# Altium schematic symbol library Inductors.SchLib: 2 symbols
Pins are listed as number, name and electrical type; pins without a type are passive.

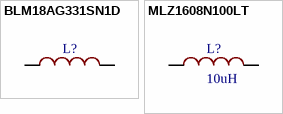
[diagram p0: symbols BLM18AG331SN1D to MLZ1608N100LT]

## BLM18AG331SN1D
designator L?
MURATA         BLM18AG331SN1D            FERRITE BEAD, 0.3OHM, 500MA, 0603; Material: Ferrite,Steel; Impedance: 330R; Tolerance: 25%; DC Resistance (DCR): 300mR; Test Frequency: 100MHz; Number of Lines: 1; Shielding: Unshielded; Supplier 1: Farnell; Supplier Part Number 1: 1515675; Manufacturer: Murata; Manufacturer Part Number: BLM18AG331SN1D; RoHS: Yes; Category: Inductors; Stock 1: 4308; Case/Package: 0603; Number of Pins: 2; Core Material: Ferrite; Case Code (Metric): 1608; Case Code (Imperial): 0603; Min Operating Temperature: -55°C; Max Operating Temperature: 125°C; Max DC Current: 500mA; Package Quantity: 1; Max Current Rating: 500mA; Packaging: Tape and Reel; Current Rating: 500mA; ESR (Equivalent Series Resistance): 330R; Termination: SMD/SMT; Number of Circuits: 1; Length: 1.6mm; Height: 0.8mm; Width: 0.8mm; Depth: 0.8mm; REACH SVHC: No SVHC; Lead Free: Lead Free; ComponentLink1URL: https://datasheet.ciiva.com/1466/356366-1466928.pdf?src-supplier=Element14; ComponentLink1Description: https://datasheet.ciiva.com/1466/356366-1466928.pdf?src-supplier=Element14; ComponentLink2URL: https://datasheet.ciiva.com/19458/1844740-19458419.pdf?src-supplier=Jameco; ComponentLink2Description: https://datasheet.ciiva.com/19458/1844740-19458419.pdf?src-supplier=Jameco; ComponentLink3URL: https://datasheet.ciiva.com/18093/getdatasheetpartid-220856-18093188.pdf?src-supplier=Verical; ComponentLink3Description: https://datasheet.ciiva.com/18093/getdatasheetpartid-220856-18093188.pdf?src-supplier=Verical; ComponentLink4URL: https://datasheet.ciiva.com/11800/0900766b811b5866-11800887.pdf?src-supplier=RSComponents; ComponentLink4Description: https://datasheet.ciiva.com/11800/0900766b811b5866-11800887.pdf?src-supplier=RSComponents; ComponentLink5URL: https://datasheet.ciiva.com/41449/001171689-da-01-en-chip-drossel0603-330r-500ma-1-6x0-8mm-41449370.pdf?src-supplier=Conrad; ComponentLink5Description: https://datasheet.ciiva.com/41449/001171689-da-01-en-chip-drossel0603-330r-500ma-1-6x0-8mm-41449370.pdf?src-supplier=Conrad; ComponentLink6URL: https://datasheet.ciiva.com/41449/001172225-da-01-en-drossel-0603-330r-1-6x0-8mm-4000st-41449519.pdf?src-supplier=Conrad; ComponentLink6Description: https://datasheet.ciiva.com/41449/001172225-da-01-en-drossel-0603-330r-1-6x0-8mm-4000st-41449519.pdf?src-supplier=Conrad; ComponentLink7URL: https://datasheet.ciiva.com/16420/l0110s0100blm18a-16420761.pdf?src-supplier=Future+Electronics; ComponentLink7Description: https://datasheet.ciiva.com/16420/l0110s0100blm18a-16420761.pdf?src-supplier=Future+Electronics; ComponentLink8URL: https://datasheet.ciiva.com/1012/l0110s0100blm18a-1012044.pdf?src-supplier=Digi-Key; ComponentLink8Description: https://datasheet.ciiva.com/1012/l0110s0100blm18a-1012044.pdf?src-supplier=Digi-Key; ComponentLink9URL: https://datasheet.ciiva.com/3081/l0110s0100blm18a-3081612.pdf?src-supplier=Avnet; ComponentLink9Description: https://datasheet.ciiva.com/3081/l0110s0100blm18a-3081612.pdf?src-supplier=Avnet; ComponentLink10URL: https://datasheet.ciiva.com/1012/l0110s0100blm18a-1012045.pdf?src-supplier=Digi-Key; ComponentLink10Description: https://datasheet.ciiva.com/1012/l0110s0100blm18a-1012045.pdf?src-supplier=Digi-Key; ComponentLink11URL: https://datasheet.ciiva.com/17279/l0110s0100blm18a-17279501.pdf?src-supplier=Avnet+Europe; ComponentLink11Description: https://datasheet.ciiva.com/17279/l0110s0100blm18a-17279501.pdf?src-supplier=Avnet+Europe; ComponentLink12URL: https://datasheet.ciiva.com/1012/l0110s0100blm18a-1012046.pdf?src-supplier=Digi-Key; ComponentLink12Description: https://datasheet.ciiva.com/1012/l0110s0100blm18a-1012046.pdf?src-supplier=Digi-Key; ComponentLink13URL: https://datasheet.ciiva.com/1466/356366-1466927.pdf?src-supplier=Element14; ComponentLink13Description: https://datasheet.ciiva.com/1466/356366-1466927.pdf?src-supplier=Element14; Price: 0.0361
footprint INDC1608X10 (Chip Inductor, 2-Leads, Body 1.60x0.80mm, IPC Medium Density)
pins: 1, 2

## MLZ1608N100LT
designator L?, comment 10uH
TDK         MLZ1608N100LT             Surface Mount Power Inductor, Ferrite, MLZ Series, 10 H, 300 mA, 60 mA, Multilayer, 0.6 ohm                          New; Tolerance: 20%; Shielding: Shielded; DC Resistance (DCR): 780mR; Test Frequency: 2MHz; Self Resonant Frequency: 50MHz; Saturation Current: 60mA; DC Current: 300mA; Supplier 1: Farnell; Supplier Part Number 1: 2564062; Manufacturer: TDK; Manufacturer Part Number: MLZ1608N100LT; RoHS: Yes; Category: Inductors; Stock: 14993; Pricing: 10=0.12200, 100=0.07240, 500=0.06400, 1000=0.05560, 2000=0.04660, 4000=0.03890, 20000=0.03730 (EUR); Mount: Surface Mount; Case/Package: 603; Core Material: Ferrite; Min Operating Temperature: -55°C; Max Operating Temperature: 125°C; Packaging: Cut Tape; Inductance: 10uH; Inductance Tolerance: 20%; Military Standard: Not; RMS Current (Irms): 300mA; Length: 1.75mm; Depth: 0.95mm; REACH SVHC: No SVHC; ComponentLink1URL: http://www.farnell.com/datasheets/2053102.pdf?src-supplier=Farnell; ComponentLink1Description: http://www.farnell.com/datasheets/2053102.pdf?src-supplier=Farnell; ComponentLink2URL: http://components.arrow.com/part/dataview/0323_03824957?src-supplier=Arrow+Europe; ComponentLink2Description: http://components.arrow.com/part/dataview/0323_03824957?src-supplier=Arrow+Europe; ComponentLink3URL: http://www.farnell.com/datasheets/2053102.pdf?src-supplier=Element14; ComponentLink3Description: http://www.farnell.com/datasheets/2053102.pdf?src-supplier=Element14; Price: 0.077
footprint INDC1608X10 (Chip Inductor, 2-Leads, Body 1.60x0.80mm, IPC Medium Density)
pins: 1, 2